# EAGLE library part 74LVC2GU04 (library rgb_cube)
DUAL INVERTER GATE This dual inverter is designed for 1.65-V to 5.5-V VCC operation. The SN74LVC2GU04 contains two inverters with unbuffered outputs and performs the Boolean function Y = A. It is available from NXP and TI. http://www.nxp.com/documents/data_sheet/74LVC2GU04.pdf http://focus.ti.com/lit/ds/symlink/sn74lvc2gu04.pdf
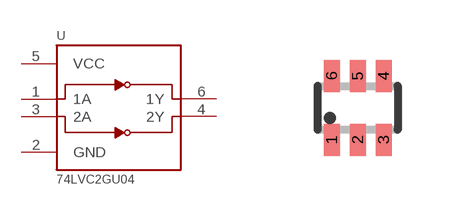
[diagram p24: symbol with the pads of SOT363_PHILIPS; footprint SOT363_PHILIPS]

Designator prefix -

## 74LVC2GU04  [SOT363_PHILIPS]
1  1A
2  GND  sup
3  2A
4  2Y
5  VCC  sup
6  1Y

## Footprint SOT363_PHILIPS (pad centres in mm)
Small Outline Transistor; 6 leads Philips Semiconductors, SOT363.pdf
smd 0.4 x 0.8: 1 -0.65,-0.8; 2 0,-0.8; 3 0.65,-0.8; 4 0.65,0.8; 5 0,0.8; 6 -0.65,0.8